# Altium integrated library Texas Instruments Power Management PWM Controller.IntLib: 1227 symbols (part 47 of 49)
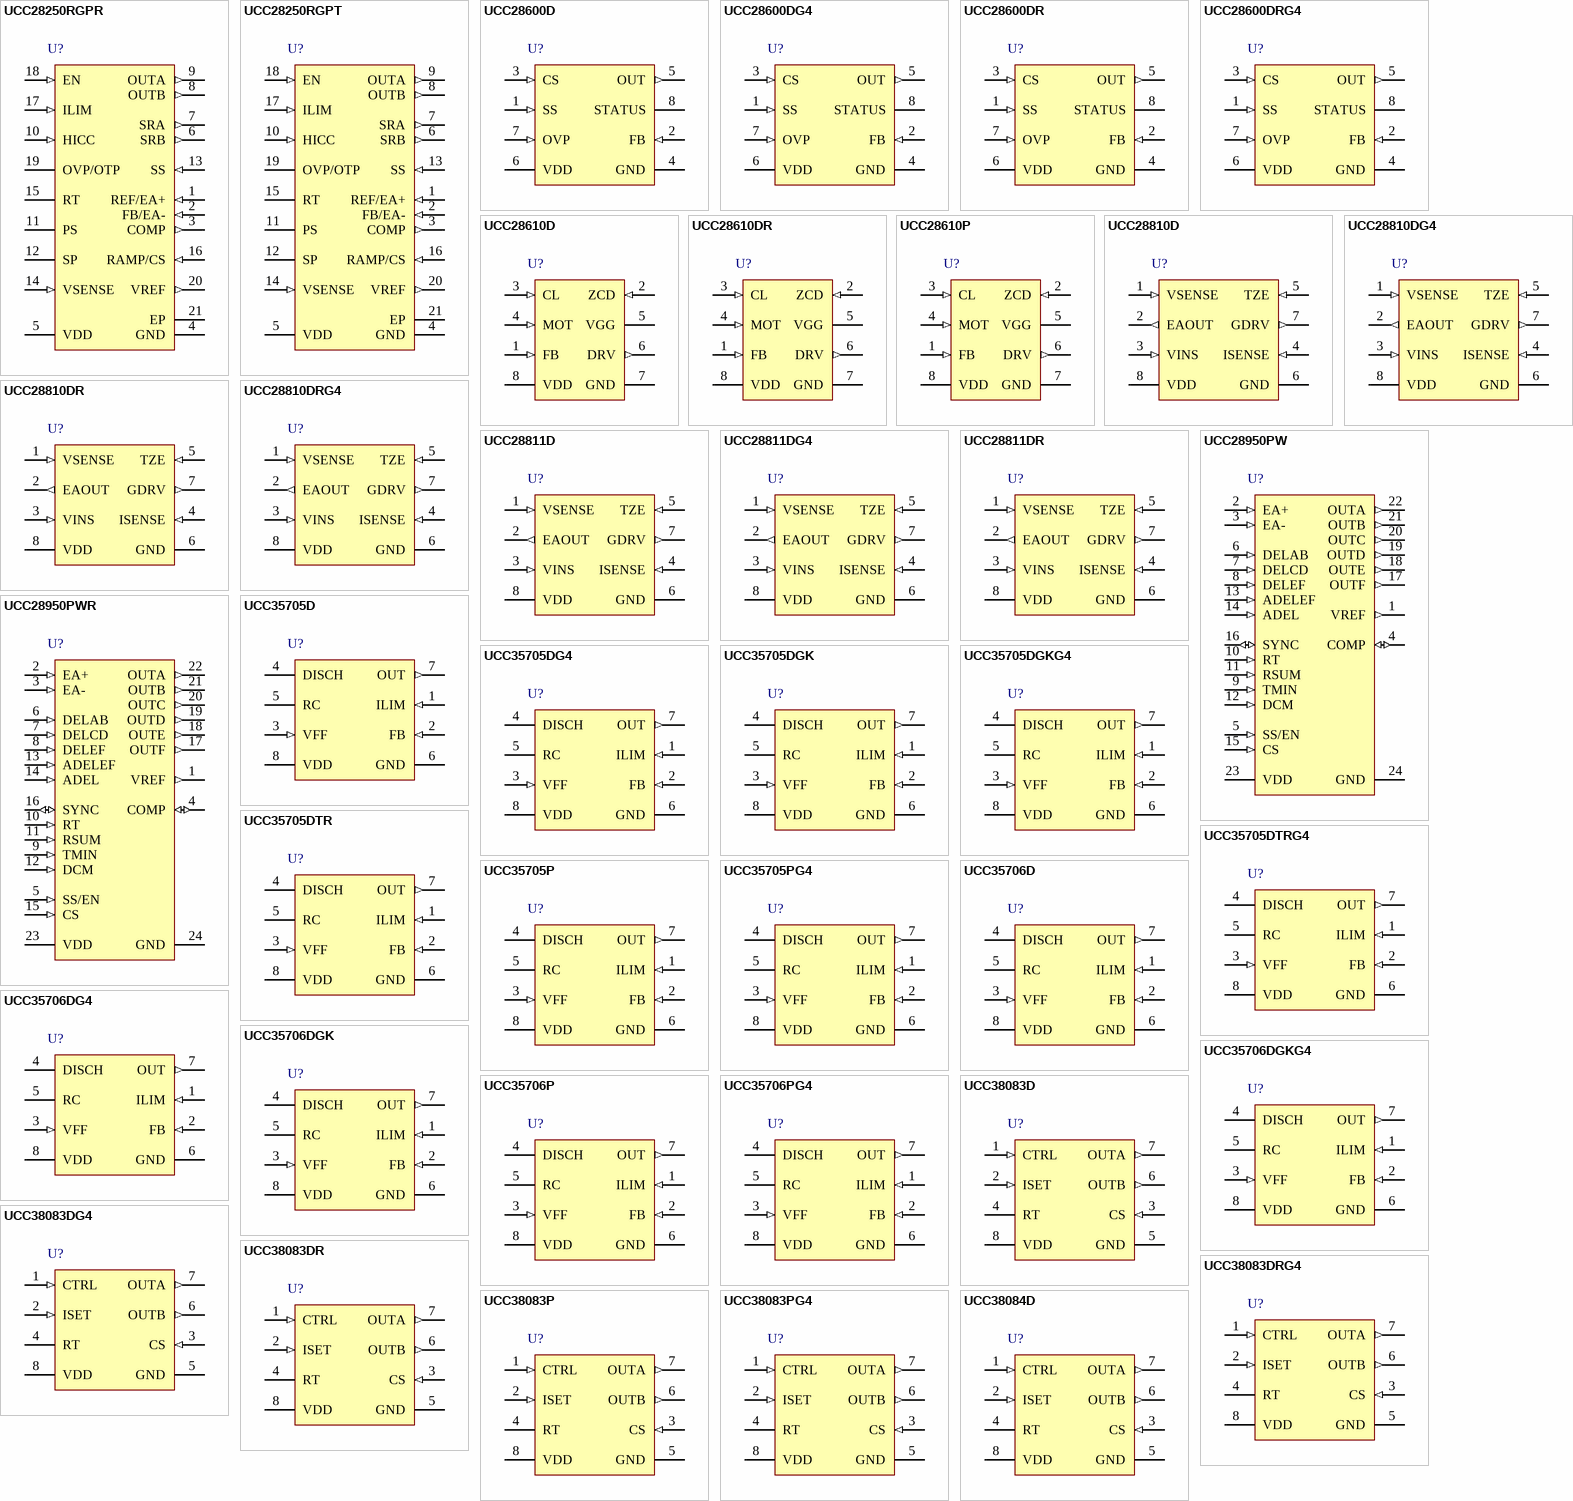
[diagram p89: symbols UCC28250RGPR to UCC38084D]

## UCC35705P
designator U?
High-Speed Pulse Width Modulator with Voltage Control, 93 % Duty Cycle, 0 to +70 degC,8-pin SOIC (P),Green (RoHS & no Sb/Br); PartNumber: UCC35705P; Manufacturer: Texas Instruments; Duty Cycle(Max)(%): 93; Frequency(Max)(kHz): 4000; Rating: Catalog; Regulated Outputs(#): 1; SubFamily: PWM Controller; Topology: Boost, Buck, Flyback, Forward; UVLO Thresholds On/Off(V): 8.8/8.2; DatasheetVersion: SLUS473B; PackageVersion: revE, Apr-2010; PackageReference: P8; PackageDescription: 8-Pin Plastic Dual-In-Line Package, Row Spacing 7.62 mm, Pitch 2.54 mm; Supplier 1: Digi-Key; Supplier Part Number 1: 296-11432-5-ND; Supplier 2: Newark; Supplier Part Number 2: 77C2267; Supplier 3: Mouser; Supplier Part Number 3: 595-UCC35705P; Control Method: Voltage; Eco-Plan: Green (RoHS & no Sb/Br); Mounting Technology: Through Hole; Code_JEDEC: MS-001-BA; ComponentLink1Description: Datasheet; ComponentLink1URL: http://www.ti.com/general/docs/lit/getliterature.tsp?genericPartNumber=UCC35705&fileType=pdf
footprint P8 (DIP, 8-Leads, Row Spacing 7.62mm, Pitch 2.54mm, Body 9.6x6.4mm)
pins: 1 ILIM (in) "Provides a pulse-by-pulse current limit by terminating the PWM pulse when the input is above 200 mV. This provides a high speed (25 ns typical) path to reset the PWM latch, allowing for a pulse-by-pulse current limit.", 2 FB (in) "Input to the PWM comparator. This pin is intended to interface with an optocoupler. Input impedance is 50-kohm typical.", 3 VFF (in) "The feed-forward pin provides the controllerwith a voltage proportional to the power supply input voltage.When the oscillator is providing a duty cycle clamp, a current of 2 x IDISCH is sourced from the VFF pin.", 4 DISCH "A resistor to VIN sets the oscillator discharge current programming amaximum duty cycle. When grounded, an internal comparator switches the oscillator to a quick discharge mode. A small 100-pF capacitor between DISCH and GND (See Datasheet)", 5 RC "The oscillator can be configured to provide a maximum duty cycle clamp. In this mode the on--time is set by RT and CT,while the off-time is set by RDISCH and CT.Since the voltage ramp on CT is proportional to VIN, (See Datasheet)", 6 GND (power) "Ground return pin.", 7 OUT (out) "The output is intended to drive an external FET driver or other high impedance circuits, but is not intended to directly drive a power MOSFET. This improves the controller’s noise immunity. The output resistance of the PWM (See Datasheet)", 8 VDD (power) "Power supply pin. This pin should be bypassed with a 0.1-uF capacitor for proper operation. The undervoltage lockout function of the UCC35705/6 allows for a low current startupmode and ensures that all circuits become active (See Datasheet)"

## UCC35705PG4
designator U?
High-Speed Pulse Width Modulator with Voltage Control, 93 % Duty Cycle, 0 to +70 degC, 8-pin PDIP(P), Green (RoHS & no Sb/Br); PartNumber: UCC35705PG4; Manufacturer: Texas Instruments; Duty Cycle(Max)(%): 93; Frequency(Max)(kHz): 4000; Rating: Catalog; Regulated Outputs(#): 1; SubFamily: PWM Controller; Topology: Boost, Buck, Flyback, Forward; UVLO Thresholds On/Off(V): 8.8/8.2; DatasheetVersion: SLUS473B; PackageVersion: revE, Apr-2010; PackageReference: P8; PackageDescription: 8-Pin Plastic Dual-In-Line Package, Row Spacing 7.62 mm, Pitch 2.54 mm; Supplier 1: Digi-Key; Supplier Part Number 1: UCC35705PG4-ND; Supplier 2: Newark; Supplier Part Number 2: 70K5910; Supplier 3: Mouser; Supplier Part Number 3: 595-UCC35705PG4; Control Method: Voltage; Eco-Plan: Green (RoHS & no Sb/Br); Mounting Technology: Through Hole; Code_JEDEC: MS-001-BA; ComponentLink1Description: Datasheet; ComponentLink1URL: http://www.ti.com/general/docs/lit/getliterature.tsp?genericPartNumber=UCC35705&fileType=pdf
footprint P8 (DIP, 8-Leads, Row Spacing 7.62mm, Pitch 2.54mm, Body 9.6x6.4mm)
pins: 1 ILIM (in) "Provides a pulse-by-pulse current limit by terminating the PWM pulse when the input is above 200 mV. This provides a high speed (25 ns typical) path to reset the PWM latch, allowing for a pulse-by-pulse current limit.", 2 FB (in) "Input to the PWM comparator. This pin is intended to interface with an optocoupler. Input impedance is 50-kohm typical.", 3 VFF (in) "The feed-forward pin provides the controllerwith a voltage proportional to the power supply input voltage.When the oscillator is providing a duty cycle clamp, a current of 2 x IDISCH is sourced from the VFF pin.", 4 DISCH "A resistor to VIN sets the oscillator discharge current programming amaximum duty cycle. When grounded, an internal comparator switches the oscillator to a quick discharge mode. A small 100-pF capacitor between DISCH and GND (See Datasheet)", 5 RC "The oscillator can be configured to provide a maximum duty cycle clamp. In this mode the on--time is set by RT and CT,while the off-time is set by RDISCH and CT.Since the voltage ramp on CT is proportional to VIN, (See Datasheet)", 6 GND (power) "Ground return pin.", 7 OUT (out) "The output is intended to drive an external FET driver or other high impedance circuits, but is not intended to directly drive a power MOSFET. This improves the controller’s noise immunity. The output resistance of the PWM (See Datasheet)", 8 VDD (power) "Power supply pin. This pin should be bypassed with a 0.1-uF capacitor for proper operation. The undervoltage lockout function of the UCC35705/6 allows for a low current startupmode and ensures that all circuits become active (See Datasheet)"

## UCC35706D
designator U?
High-Speed Pulse Width Modulator with Voltage Control, 93 % Duty Cycle, 0 to +70 degC, 8-pin SOIC (D), Green (RoHS & no Sb/Br); PartNumber: UCC35706D; Manufacturer: Texas Instruments; Duty Cycle(Max)(%): 93; Frequency(Max)(kHz): 4000; Rating: Catalog; Regulated Outputs(#): 1; SubFamily: PWM Controller; Topology: Boost, Buck, Flyback, Forward; UVLO Thresholds On/Off(V): 12/8; DatasheetVersion: SLUS473B; PackageVersion: revM, Jun-2011; PackageReference: D8; PackageDescription: 8-Pin Plastic Small Outline Integrated Circuit, 4.9 x 3.9 mm, Pitch 1.27 mm Pitch; Supplier 1: Digi-Key; Supplier Part Number 1: 296-11433-5-ND; Supplier 2: Newark; Supplier Part Number 2: 77C2268; Supplier 3: Mouser; Supplier Part Number 3: 595-UCC35706D; Control Method: Voltage; Eco-Plan: Green (RoHS & no Sb/Br); Mounting Technology: Surface Mount; Code_JEDEC: MS-012AA; ComponentLink1Description: Datasheet; ComponentLink1URL: http://www.ti.com/general/docs/lit/getliterature.tsp?genericPartNumber=UCC35706&fileType=pdf
footprint D8_N (SOIC, 8-Leads, Body 4.9x3.9mm, Pitch 1.27mm, IPC Medium Density)
footprint D8_L (SOIC, 8-Leads, Body 4.9x3.9mm, Pitch 1.27mm, IPC High Density)
footprint D8_M (SOIC, 8-Leads, Body 4.9x3.9mm, Pitch 1.27mm, IPC Low Density)
pins: 1 ILIM (in) "Provides a pulse-by-pulse current limit by terminating the PWM pulse when the input is above 200 mV. This provides a high speed (25 ns typical) path to reset the PWM latch, allowing for a pulse-by-pulse current limit.", 2 FB (in) "Input to the PWM comparator. This pin is intended to interface with an optocoupler. Input impedance is 50-k ohm typical.", 3 VFF (in) "The feed-forward pin provides the controllerwith a voltage proportional to the power supply input voltage.", 4 DISCH "A resistor to VIN sets the oscillator discharge current programming amaximum duty cycle. When grounded, an internal comparator switches the oscillator to a quick discharge mode. A small 100-pF capacitor between DISCH and GND (See Datasheet)", 5 RC "The oscillator can be configured to provide a maximum duty cycle clamp. In this mode the on--time is set by RT and CT,while the off-time is set by RDISCH and CT.Since the voltage ramp on CTis proportional to VIN, (See Datasheet)", 6 GND (power) "Ground return pin.", 7 OUT (out) "The output is intended to drive an external FET driver or other high impedance circuits, but is not intended to directly drive a power MOSFET. This improves the controller’s noise immunity. The output resistance of the PWM (See Datasheet)", 8 VDD (power) "Power supply pin. This pin should be bypassed with a 0.1-uF capacitor for proper operation. The undervoltage lockout function of the UCC35705/6 allows for a low current startupmode and ensures that all circuits become active (See Datasheet)"

## UCC35706DG4
designator U?
High-Speed Pulse Width Modulator with Voltage Control, 93 % Duty Cycle, 0 to +70 degC, 8-pin SOIC (D), Green (RoHS & no Sb/Br); PartNumber: UCC35706DG4; Manufacturer: Texas Instruments; Duty Cycle(Max)(%): 93; Frequency(Max)(kHz): 4000; Rating: Catalog; Regulated Outputs(#): 1; SubFamily: PWM Controller; Topology: Boost, Buck, Flyback, Forward; UVLO Thresholds On/Off(V): 12/8; DatasheetVersion: SLUS473B; PackageVersion: revM, Jun-2011; PackageReference: D8; PackageDescription: 8-Pin Plastic Small Outline Integrated Circuit, 4.9 x 3.9 mm, Pitch 1.27 mm Pitch; Supplier 1: Digi-Key; Supplier Part Number 1: UCC35706DG4-ND; Supplier 2: Newark; Supplier Part Number 2: 54K2091; Supplier 3: Mouser; Supplier Part Number 3: 595-UCC35706DG4; Control Method: Voltage; Eco-Plan: Green (RoHS & no Sb/Br); Mounting Technology: Surface Mount; Code_JEDEC: MS-012AA; ComponentLink1Description: Datasheet; ComponentLink1URL: http://www.ti.com/general/docs/lit/getliterature.tsp?genericPartNumber=UCC35706&fileType=pdf
footprint D8_N (SOIC, 8-Leads, Body 4.9x3.9mm, Pitch 1.27mm, IPC Medium Density)
footprint D8_L (SOIC, 8-Leads, Body 4.9x3.9mm, Pitch 1.27mm, IPC High Density)
footprint D8_M (SOIC, 8-Leads, Body 4.9x3.9mm, Pitch 1.27mm, IPC Low Density)
pins: 1 ILIM (in) "Provides a pulse-by-pulse current limit by terminating the PWM pulse when the input is above 200 mV. This provides a high speed (25 ns typical) path to reset the PWM latch, allowing for a pulse-by-pulse current limit.", 2 FB (in) "Input to the PWM comparator. This pin is intended to interface with an optocoupler. Input impedance is 50-k ohm typical.", 3 VFF (in) "The feed-forward pin provides the controllerwith a voltage proportional to the power supply input voltage.", 4 DISCH "A resistor to VIN sets the oscillator discharge current programming amaximum duty cycle. When grounded, an internal comparator switches the oscillator to a quick discharge mode. A small 100-pF capacitor between DISCH and GND (See Datasheet)", 5 RC "The oscillator can be configured to provide a maximum duty cycle clamp. In this mode the on--time is set by RT and CT,while the off-time is set by RDISCH and CT.Since the voltage ramp on CTis proportional to VIN, (See Datasheet)", 6 GND (power) "Ground return pin.", 7 OUT (out) "The output is intended to drive an external FET driver or other high impedance circuits, but is not intended to directly drive a power MOSFET. This improves the controller’s noise immunity. The output resistance of the PWM (See Datasheet)", 8 VDD (power) "Power supply pin. This pin should be bypassed with a 0.1-uF capacitor for proper operation. The undervoltage lockout function of the UCC35705/6 allows for a low current startupmode and ensures that all circuits become active (See Datasheet)"

## UCC35706DGK
designator U?
High-Speed Pulse Width Modulator with Voltage Control, 93 % Duty Cycle, 0 to +70 degC, 8-pin MSOP (DGK), Green (RoHS & no Sb/Br); PartNumber: UCC35706DGK; Manufacturer: Texas Instruments; Duty Cycle(Max)(%): 93; Frequency(Max)(kHz): 4000; Rating: Catalog; Regulated Outputs(#): 1; SubFamily: PWM Controller; Topology: Boost, Buck, Flyback, Forward; UVLO Thresholds On/Off(V): 12/8; DatasheetVersion: SLUS473B; PackageVersion: revE, May-2006; PackageReference: DGK8; PackageDescription: 8-Pin Thin Small Outline Package 3 x 3 mm Body ,0.65 mm Pitch; Supplier 1: Digi-Key; Supplier Part Number 1: 296-11434-5-ND; Supplier 2: Newark; Supplier Part Number 2: 77C2269; Supplier 3: Mouser; Supplier Part Number 3: 595-UCC35706DGK; Control Method: Voltage; Eco-Plan: Green (RoHS & no Sb/Br); Mounting Technology: Surface Mount; Code_JEDEC: MO-187-AA; ComponentLink1Description: Datasheet; ComponentLink1URL: http://www.ti.com/general/docs/lit/getliterature.tsp?genericPartNumber=UCC35706&fileType=pdf
footprint DGK8_N (TSOP, 8-Leads, Body 3x3mm, Pitch 0.65mm, IPC Medium Density)
footprint DGK8_L (TSOP, 8-Leads, Body 3x3mm, Pitch 0.65mm, IPC High Density)
footprint DGK8_M (TSOP, 8-Leads, Body 3x3mm, Pitch 0.65mm, IPC Low Density)
pins: 1 ILIM (in) "Provides a pulse-by-pulse current limit by terminating the PWM pulse when the input is above 200 mV. This provides a high speed (25 ns typical) path to reset the PWM latch, allowing for a pulse-by-pulse current limit.", 2 FB (in) "Input to the PWM comparator. This pin is intended to interface with an optocoupler. Input impedance is 50-kohm typical.", 3 VFF (in) "The feed-forward pin provides the controller with a voltage proportional to the power supply input voltage. When the oscillator is providing a duty cycle clamp, a current of 2 x IDISCH is sourced from the VFF pin.When the (See Datasheet)", 4 DISCH "A resistor to VIN sets the oscillator discharge current programming a maximum duty cycle. When grounded, an internal comparator switches the oscillator to a quick discharge mode. A small 100-pF capacitor between DISCH and (See Datasheet)", 5 RC "The oscillator can be configured to provide a maximum duty cycle clamp. In this mode the on--time is set by RT and CT, while the off-time is set by RDISCH and CT. Since the voltage ramp on CT is proportional to VIN, (See Datasheet)", 6 GND (power) "Ground return pin.", 7 OUT (out) "The output is intended to drive an external FET driver or other high impedance circuits, but is not intended to directly drive a power MOSFET. This improves the controller’s noise immunity. The output resistance of the PWM (See Datasheet)", 8 VDD (power) "Power supply pin. This pin should be bypassed with a 0.1-uF capacitor for proper operation. The undervoltage lockout function of the UCC35705/6 allows for a low current startup mode and ensures that all circuits become (See Datasheet)"

## UCC35706DGKG4
designator U?
High-Speed Pulse Width Modulator with Voltage Control, 93 % Duty Cycle, 0 to +70 degC, 8-pin MSOP (DGK), Green (RoHS & no Sb/Br); PartNumber: UCC35706DGKG4; Manufacturer: Texas Instruments; Duty Cycle(Max)(%): 93; Frequency(Max)(kHz): 4000; Rating: Catalog; Regulated Outputs(#): 1; SubFamily: PWM Controller; Topology: Boost, Buck, Flyback, Forward; UVLO Thresholds On/Off(V): 12/8; DatasheetVersion: SLUS473B; PackageVersion: revE, May-2006; PackageReference: DGK8; PackageDescription: 8-Pin Thin Small Outline Package 3 x 3 mm Body ,0.65 mm Pitch; Supplier 1: Digi-Key; Supplier Part Number 1: UCC35706DGKG4-ND; Supplier 2: Mouser; Supplier Part Number 2: 595-UCC35706DGKG4; Control Method: Voltage; Eco-Plan: Green (RoHS & no Sb/Br); Mounting Technology: Surface Mount; Code_JEDEC: MO-187-AA; ComponentLink1Description: Datasheet; ComponentLink1URL: http://www.ti.com/general/docs/lit/getliterature.tsp?genericPartNumber=UCC35706&fileType=pdf
footprint DGK8_N (TSOP, 8-Leads, Body 3x3mm, Pitch 0.65mm, IPC Medium Density)
footprint DGK8_L (TSOP, 8-Leads, Body 3x3mm, Pitch 0.65mm, IPC High Density)
footprint DGK8_M (TSOP, 8-Leads, Body 3x3mm, Pitch 0.65mm, IPC Low Density)
pins: 1 ILIM (in) "Provides a pulse-by-pulse current limit by terminating the PWM pulse when the input is above 200 mV. This provides a high speed (25 ns typical) path to reset the PWM latch, allowing for a pulse-by-pulse current limit.", 2 FB (in) "Input to the PWM comparator. This pin is intended to interface with an optocoupler. Input impedance is 50-kohm typical.", 3 VFF (in) "The feed-forward pin provides the controller with a voltage proportional to the power supply input voltage. When the oscillator is providing a duty cycle clamp, a current of 2 x IDISCH is sourced from the VFF pin.When the (See Datasheet)", 4 DISCH "A resistor to VIN sets the oscillator discharge current programming a maximum duty cycle. When grounded, an internal comparator switches the oscillator to a quick discharge mode. A small 100-pF capacitor between DISCH and (See Datasheet)", 5 RC "The oscillator can be configured to provide a maximum duty cycle clamp. In this mode the on--time is set by RT and CT, while the off-time is set by RDISCH and CT. Since the voltage ramp on CT is proportional to VIN, (See Datasheet)", 6 GND (power) "Ground return pin.", 7 OUT (out) "The output is intended to drive an external FET driver or other high impedance circuits, but is not intended to directly drive a power MOSFET. This improves the controller’s noise immunity. The output resistance of the PWM (See Datasheet)", 8 VDD (power) "Power supply pin. This pin should be bypassed with a 0.1-uF capacitor for proper operation. The undervoltage lockout function of the UCC35705/6 allows for a low current startup mode and ensures that all circuits become (See Datasheet)"

## UCC35706P
designator U?
High-Speed Pulse Width Modulator with Voltage Control, 93 % Duty Cycle, 0 to +70 degC, 8-pin PDIP (P), Green (RoHS & no Sb/Br); PartNumber: UCC35706P; Manufacturer: Texas Instruments; Duty Cycle(Max)(%): 93; Frequency(Max)(kHz): 4000; Rating: Catalog; Regulated Outputs(#): 1; SubFamily: PWM Controller; Topology: Boost, Buck, Flyback, Forward; UVLO Thresholds On/Off(V): 12/8; DatasheetVersion: SLUS473B; PackageVersion: revE, Apr-2010; PackageReference: P8; PackageDescription: 8-Pin Plastic Dual-In-Line Package, Row Spacing 7.62 mm, Pitch 2.54 mm; Supplier 1: Digi-Key; Supplier Part Number 1: 296-15320-5-ND; Supplier 2: Newark; Supplier Part Number 2: 77C2272; Supplier 3: Mouser; Supplier Part Number 3: 595-UCC35706P; Control Method: Voltage; Eco-Plan: Green (RoHS & no Sb/Br); Mounting Technology: Through Hole; Code_JEDEC: MS-001-BA; ComponentLink1Description: Datasheet; ComponentLink1URL: http://www.ti.com/general/docs/lit/getliterature.tsp?genericPartNumber=UCC35706&fileType=pdf
footprint P8 (DIP, 8-Leads, Row Spacing 7.62mm, Pitch 2.54mm, Body 9.6x6.4mm)
pins: 1 ILIM (in) "Provides a pulse-by-pulse current limit by terminating the PWM pulse when the input is above 200 mV. This provides a high speed (25 ns typical) path to reset the PWM latch, allowing for a pulse-by-pulse current limit.", 2 FB (in) "Input to the PWM comparator. This pin is intended to interface with an optocoupler. Input impedance is 50-kohm typical.", 3 VFF (in) "The feed-forward pin provides the controllerwith a voltage proportional to the power supply input voltage.", 4 DISCH "A resistor to VIN sets the oscillator discharge current programming amaximum duty cycle. When grounded, an internal comparator switches the oscillator to a quick discharge mode. A small 100-pF capacitor between DISCH and GND (See Datasheet)", 5 RC "The oscillator can be configured to provide a maximum duty cycle clamp. In this mode the on--time is set by RT and CT,while the off-time is set by RDISCH and CT.Since the voltage ramp on CTis proportional to VIN, (See Datasheet)", 6 GND (power) "Ground return pin.", 7 OUT (out) "The output is intended to drive an external FET driver or other high impedance circuits, but is not intended to directly drive a power MOSFET. This improves the controller’s noise immunity. The output resistance of the PWM (See Datasheet)", 8 VDD (power) "Power supply pin. This pin should be bypassed with a 0.1-uF capacitor for proper operation. The undervoltage lockout function of the UCC35705/6 allows for a low current startupmode and ensures that all circuits become active (See Datasheet)"

## UCC35706PG4
designator U?
High-Speed Voltage Mode Polse Width Modulator with Voltage Control, 93 % Duty Cycle, 0 to +70 degC, 8-pin PDIP (P), Green (RoHS & no Sb/Br); PartNumber: UCC35706PG4; Manufacturer: Texas Instruments; Duty Cycle(Max)(%): 93; Frequency(Max)(kHz): 4000; Rating: Catalog; Regulated Outputs(#): 1; SubFamily: PWM Controller; Topology: Boost, Buck, Flyback, Forward; UVLO Thresholds On/Off(V): 12/8; DatasheetVersion: SLUS473B; PackageVersion: revE, Apr-2010; PackageReference: P8; PackageDescription: 8-Pin Plastic Dual-In-Line Package, Row Spacing 7.62 mm, Pitch 2.54 mm; Supplier 1: Digi-Key; Supplier Part Number 1: UCC35706PG4-ND; Supplier 2: Newark; Supplier Part Number 2: 54K2093; Supplier 3: Mouser; Supplier Part Number 3: 595-UCC35706PG4; Control Method: Voltage; Eco-Plan: Green (RoHS & no Sb/Br); Mounting Technology: Through Hole; Code_JEDEC: MS-001-BA; ComponentLink1Description: Datasheet; ComponentLink1URL: http://www.ti.com/general/docs/lit/getliterature.tsp?genericPartNumber=UCC35706&fileType=pdf
footprint P8 (DIP, 8-Leads, Row Spacing 7.62mm, Pitch 2.54mm, Body 9.6x6.4mm)
pins: 1 ILIM (in) "Provides a pulse-by-pulse current limit by terminating the PWM pulse when the input is above 200 mV. This provides a high speed (25 ns typical) path to reset the PWM latch, allowing for a pulse-by-pulse current limit.", 2 FB (in) "Input to the PWM comparator. This pin is intended to interface with an optocoupler. Input impedance is 50-kohm typical.", 3 VFF (in) "The feed-forward pin provides the controllerwith a voltage proportional to the power supply input voltage.", 4 DISCH "A resistor to VIN sets the oscillator discharge current programming amaximum duty cycle. When grounded, an internal comparator switches the oscillator to a quick discharge mode. A small 100-pF capacitor between DISCH and GND (See Datasheet)", 5 RC "The oscillator can be configured to provide a maximum duty cycle clamp. In this mode the on--time is set by RT and CT,while the off-time is set by RDISCH and CT.Since the voltage ramp on CTis proportional to VIN, (See Datasheet)", 6 GND (power) "Ground return pin.", 7 OUT (out) "The output is intended to drive an external FET driver or other high impedance circuits, but is not intended to directly drive a power MOSFET. This improves the controller’s noise immunity. The output resistance of the PWM (See Datasheet)", 8 VDD (power) "Power supply pin. This pin should be bypassed with a 0.1-uF capacitor for proper operation. The undervoltage lockout function of the UCC35705/6 allows for a low current startupmode and ensures that all circuits become active (See Datasheet)"

## UCC38083D
designator U?
Push-Pull PWM Controller with Programmable Slope Compensation with Current Control, 50 % Duty Cycle, 0 to +70 degC, 8-pin SOIC (D), Green (RoHS & no Sb/Br); PartNumber: UCC38083D; Manufacturer: Texas Instruments; Duty Cycle(Max)(%): 50; Frequency(Max)(kHz): 1000; Rating: Catalog; Regulated Outputs(#): 2; Topology: Boost, Buck, Half-Bridge, Push-Pull; UVLO Thresholds On/Off(V): 12.5/8.3; DatasheetVersion: SLUS488E; PackageVersion: revM, Jun-2011; PackageReference: D8; PackageDescription: 8-Pin Plastic Small Outline Integrated Circuit, 4.9 x 3.9 mm, Pitch 1.27 mm Pitch; Supplier 1: Digi-Key; Supplier Part Number 1: 296-13690-5-ND; Supplier 2: Newark; Supplier Part Number 2: 02E7337; Supplier 3: Mouser; Supplier Part Number 3: 595-UCC38083D; Control Method: Current; Eco-Plan: Green (RoHS & no Sb/Br); SubFamily: PWM Controller; Mounting Technology: Surface Mount; Code_JEDEC: MS-012AA; ComponentLink1Description: Datasheet; ComponentLink1URL: http://www.ti.com/general/docs/lit/getliterature.tsp?genericPartNumber=UCC38083&fileType=pdf
footprint D8_N (SOIC, 8-Leads, Body 4.9x3.9mm, Pitch 1.27mm, IPC Medium Density)
footprint D8_L (SOIC, 8-Leads, Body 4.9x3.9mm, Pitch 1.27mm, IPC High Density)
footprint D8_M (SOIC, 8-Leads, Body 4.9x3.9mm, Pitch 1.27mm, IPC Low Density)
pins: 1 CTRL (in) "Error voltage input to PWM comparator.", 2 ISET (in) "Current selection for slope compensation.", 3 CS (in) "The current-sense input to the PWM comparator, the cycle-by-cycle peak current comparator, and the overcurrent comparator. The overcurrent comparator is only intended for fault sensing. Exceeding the overcurrent threshold (See Datasheet)", 4 RT "Programs the oscillator.", 5 GND (power) "Reference ground and power ground for all functions. Due to high currents, and high-frequency operation of the IC, a low-impedance circuit board ground plane is highly recommended.", 6 OUTB (out) "Alternating high-current output stages.", 7 OUTA (out) "Alternating high-current output stages.", 8 VDD (power) "Power input connection."

## UCC38083DG4
designator U?
Push-Pull PWM Controller with Programmable Slope Compensation with Current Control, 50 % Duty Cycle, 0 to +70 degC, 8-pin SOIC (D), Green (RoHS & no Sb/Br); PartNumber: UCC38083DG4; Manufacturer: Texas Instruments; Duty Cycle(Max)(%): 50; Frequency(Max)(kHz): 1000; Rating: Catalog; Regulated Outputs(#): 2; Topology: Boost, Buck, Half-Bridge, Push-Pull; UVLO Thresholds On/Off(V): 12.5/8.3; DatasheetVersion: SLUS488E; PackageVersion: revM, Jun-2011; PackageReference: D8; PackageDescription: 8-Pin Plastic Small Outline Integrated Circuit, 4.9 x 3.9 mm, Pitch 1.27 mm Pitch; Supplier 1: Digi-Key; Supplier Part Number 1: UCC38083DG4-ND; Supplier 2: Newark; Supplier Part Number 2: 60M2694; Supplier 3: Mouser; Supplier Part Number 3: 595-UCC38083DG4; Control Method: Current; Eco-Plan: Green (RoHS & no Sb/Br); SubFamily: PWM Controller; Mounting Technology: Surface Mount; Code_JEDEC: MS-012AA; ComponentLink1Description: Datasheet; ComponentLink1URL: http://www.ti.com/general/docs/lit/getliterature.tsp?genericPartNumber=UCC38083&fileType=pdf
footprint D8_N (SOIC, 8-Leads, Body 4.9x3.9mm, Pitch 1.27mm, IPC Medium Density)
footprint D8_L (SOIC, 8-Leads, Body 4.9x3.9mm, Pitch 1.27mm, IPC High Density)
footprint D8_M (SOIC, 8-Leads, Body 4.9x3.9mm, Pitch 1.27mm, IPC Low Density)
pins: 1 CTRL (in) "Error voltage input to PWM comparator.", 2 ISET (in) "Current selection for slope compensation.", 3 CS (in) "The current-sense input to the PWM comparator, the cycle-by-cycle peak current comparator, and the overcurrent comparator. The overcurrent comparator is only intended for fault sensing. Exceeding the overcurrent threshold (See Datasheet)", 4 RT "Programs the oscillator.", 5 GND (power) "Reference ground and power ground for all functions. Due to high currents, and high-frequency operation of the IC, a low-impedance circuit board ground plane is highly recommended.", 6 OUTB (out) "Alternating high-current output stages.", 7 OUTA (out) "Alternating high-current output stages.", 8 VDD (power) "Power input connection."

## UCC38083DR
designator U?
Push-Pull PWM Controller with Programmable Slope Compensation with Current Control, 50 % Duty Cycle, 0 to +70 degC, 8-pin SOIC (D), Green (RoHS & no Sb/Br); PartNumber: UCC38083DR; Manufacturer: Texas Instruments; Duty Cycle(Max)(%): 50; Frequency(Max)(kHz): 1000; Rating: Catalog; Regulated Outputs(#): 2; Topology: Boost, Buck, Half-Bridge, Push-Pull; UVLO Thresholds On/Off(V): 12.5/8.3; DatasheetVersion: SLUS488E; PackageVersion: revM, Jun-2011; PackageReference: D8; PackageDescription: 8-Pin Plastic Small Outline Integrated Circuit, 4.9 x 3.9 mm, Pitch 1.27 mm Pitch; Supplier 1: Digi-Key; Supplier Part Number 1: UCC38083DR-ND; Supplier 2: Newark; Supplier Part Number 2: 02E7338; Supplier 3: Mouser; Supplier Part Number 3: 595-UCC38083DR; Control Method: Current; Eco-Plan: Green (RoHS & no Sb/Br); SubFamily: PWM Controller; Mounting Technology: Surface Mount; Code_JEDEC: MS-012AA; ComponentLink1Description: Datasheet; ComponentLink1URL: http://www.ti.com/general/docs/lit/getliterature.tsp?genericPartNumber=UCC38083&fileType=pdf
footprint D8_N (SOIC, 8-Leads, Body 4.9x3.9mm, Pitch 1.27mm, IPC Medium Density)
footprint D8_L (SOIC, 8-Leads, Body 4.9x3.9mm, Pitch 1.27mm, IPC High Density)
footprint D8_M (SOIC, 8-Leads, Body 4.9x3.9mm, Pitch 1.27mm, IPC Low Density)
pins: 1 CTRL (in) "Error voltage input to PWM comparator.", 2 ISET (in) "Current selection for slope compensation.", 3 CS (in) "The current-sense input to the PWM comparator, the cycle-by-cycle peak current comparator, and the overcurrent comparator. The overcurrent comparator is only intended for fault sensing. Exceeding the overcurrent threshold (See Datasheet)", 4 RT "Programs the oscillator.", 5 GND (power) "Reference ground and power ground for all functions. Due to high currents, and high-frequency operation of the IC, a low-impedance circuit board ground plane is highly recommended.", 6 OUTB (out) "Alternating high-current output stages.", 7 OUTA (out) "Alternating high-current output stages.", 8 VDD (power) "Power input connection."

## UCC38083DRG4
designator U?
Push-Pull PWM Controller with Programmable Slope Compensation with Current Control, 50 % Duty Cycle, 0 to +70 degC, 8-pin SOIC (D), Green (RoHS & no Sb/Br); PartNumber: UCC38083DRG4; Manufacturer: Texas Instruments; Duty Cycle(Max)(%): 50; Frequency(Max)(kHz): 1000; Rating: Catalog; Regulated Outputs(#): 2; Topology: Boost, Buck, Half-Bridge, Push-Pull; UVLO Thresholds On/Off(V): 12.5/8.3; DatasheetVersion: SLUS488E; PackageVersion: revM, Jun-2011; PackageReference: D8; PackageDescription: 8-Pin Plastic Small Outline Integrated Circuit, 4.9 x 3.9 mm, Pitch 1.27 mm Pitch; Supplier 1: Digi-Key; Supplier Part Number 1: UCC38083DRG4-ND; Supplier 2: Newark; Supplier Part Number 2: 54K2129; Supplier 3: Mouser; Supplier Part Number 3: 595-UCC38083DRG4; Control Method: Current; Eco-Plan: Green (RoHS & no Sb/Br); SubFamily: PWM Controller; Mounting Technology: Surface Mount; Code_JEDEC: MS-012AA; ComponentLink1Description: Datasheet; ComponentLink1URL: http://www.ti.com/general/docs/lit/getliterature.tsp?genericPartNumber=UCC38083&fileType=pdf
footprint D8_N (SOIC, 8-Leads, Body 4.9x3.9mm, Pitch 1.27mm, IPC Medium Density)
footprint D8_L (SOIC, 8-Leads, Body 4.9x3.9mm, Pitch 1.27mm, IPC High Density)
footprint D8_M (SOIC, 8-Leads, Body 4.9x3.9mm, Pitch 1.27mm, IPC Low Density)
pins: 1 CTRL (in) "Error voltage input to PWM comparator.", 2 ISET (in) "Current selection for slope compensation.", 3 CS (in) "The current-sense input to the PWM comparator, the cycle-by-cycle peak current comparator, and the overcurrent comparator. The overcurrent comparator is only intended for fault sensing. Exceeding the overcurrent threshold (See Datasheet)", 4 RT "Programs the oscillator.", 5 GND (power) "Reference ground and power ground for all functions. Due to high currents, and high-frequency operation of the IC, a low-impedance circuit board ground plane is highly recommended.", 6 OUTB (out) "Alternating high-current output stages.", 7 OUTA (out) "Alternating high-current output stages.", 8 VDD (power) "Power input connection."

## UCC38083P
designator U?
Push-Pull PWM Controller with Programmable Slope Compensation with Current Control, 50 % Duty Cycle, 0 to +70 degC, 8-pin PDIP (P), Green (RoHS & no Sb/Br); PartNumber: UCC38083P; Manufacturer: Texas Instruments; Duty Cycle(Max)(%): 50; Frequency(Max)(kHz): 1000; Rating: Catalog; Regulated Outputs(#): 2; Topology: Boost, Buck, Half-Bridge, Push-Pull; UVLO Thresholds On/Off(V): 12.5/8.3; DatasheetVersion: SLUS488E; PackageVersion: revE, Apr-2010; PackageReference: P8; PackageDescription: 8-Pin Plastic Dual-In-Line Package, Row Spacing 7.62 mm, Pitch 2.54 mm; Supplier 1: Digi-Key; Supplier Part Number 1: 296-13691-5-ND; Supplier 2: Newark; Supplier Part Number 2: 02E7339; Supplier 3: Mouser; Supplier Part Number 3: 595-UCC38083P; Control Method: Current; Eco-Plan: Green (RoHS & no Sb/Br); SubFamily: PWM Controller; Mounting Technology: Through Hole; Code_JEDEC: MS-001-BA; ComponentLink1Description: Datasheet; ComponentLink1URL: http://www.ti.com/general/docs/lit/getliterature.tsp?genericPartNumber=UCC38083&fileType=pdf
footprint P8 (DIP, 8-Leads, Row Spacing 7.62mm, Pitch 2.54mm, Body 9.6x6.4mm)
pins: 1 CTRL (in) "Error voltage input to PWM comparator.", 2 ISET (in) "Current selection for slope compensation.", 3 CS (in) "The current-sense input to the PWM comparator, the cycle-by-cycle peak current comparator, and the overcurrent comparator. The overcurrent comparator is only intended for fault sensing. Exceeding the overcurrent threshold (See Datasheet)", 4 RT "Programs the oscillator.", 5 GND (power) "Reference ground and power ground for all functions. Due to high currents, and high-frequency operation of the IC, a low-impedance circuit board ground plane is highly recommended.", 6 OUTB (out) "Alternating high-current output stages", 7 OUTA (out) "Alternating high-current output stages", 8 VDD (power) "Power input connection."

## UCC38083PG4
designator U?
Push-Pull PWM Controller with Programmable Slope Compensation with Current Control, 50 % Duty Cycle, 0 to +70 degC, 8-pin PDIP (P), Green (RoHS & no Sb/Br); PartNumber: UCC38083PG4; Manufacturer: Texas Instruments; Duty Cycle(Max)(%): 50; Frequency(Max)(kHz): 1000; Rating: Catalog; Regulated Outputs(#): 2; Topology: Boost, Buck, Half-Bridge, Push-Pull; UVLO Thresholds On/Off(V): 12.5/8.3; DatasheetVersion: SLUS488E; PackageVersion: revE, Apr-2010; PackageReference: P8; PackageDescription: 8-Pin Plastic Dual-In-Line Package, Row Spacing 7.62 mm, Pitch 2.54 mm; Supplier 1: Digi-Key; Supplier Part Number 1: UCC38083PG4-ND; Supplier 2: Newark; Supplier Part Number 2: 54K2130; Supplier 3: Mouser; Supplier Part Number 3: 595-UCC38083PG4; Control Method: Current; Eco-Plan: Green (RoHS & no Sb/Br); SubFamily: PWM Controller; Mounting Technology: Through Hole; Code_JEDEC: MS-001-BA; ComponentLink1Description: Datasheet; ComponentLink1URL: http://www.ti.com/general/docs/lit/getliterature.tsp?genericPartNumber=UCC38083&fileType=pdf
footprint P8 (DIP, 8-Leads, Row Spacing 7.62mm, Pitch 2.54mm, Body 9.6x6.4mm)
pins: 1 CTRL (in) "Error voltage input to PWM comparator.", 2 ISET (in) "Current selection for slope compensation.", 3 CS (in) "The current-sense input to the PWM comparator, the cycle-by-cycle peak current comparator, and the overcurrent comparator. The overcurrent comparator is only intended for fault sensing. Exceeding the overcurrent threshold (See Datasheet)", 4 RT "Programs the oscillator.", 5 GND (power) "Reference ground and power ground for all functions. Due to high currents, and high-frequency operation of the IC, a low-impedance circuit board ground plane is highly recommended.", 6 OUTB (out) "Alternating high-current output stages", 7 OUTA (out) "Alternating high-current output stages", 8 VDD (power) "Power input connection."

## UCC38084D
designator U?
8-Pin Current Mode Push-Pull PWM Controllers with Programmable Slope Compensation with Current control, 50% Duty Cycle, 0 to +70 degC, 8-pin SOIC (D), Green (RoHS & no Sb/Br); PartNumber: UCC38084D; Manufacturer: Texas Instruments; Duty Cycle(Max)(%): 50; Frequency(Max)(kHz): 1000; Rating: Catalog; Regulated Outputs(#): 2; Topology: Boost, Buck, Half-Bridge, Push-Pull; UVLO Thresholds On/Off(V): 4.3/4.1; DatasheetVersion: SLUS488E; PackageVersion: revM, Jun-2011; PackageReference: D8; PackageDescription: 8-Pin Plastic Small Outline Integrated Circuit, 4.9 x 3.9 mm, Pitch 1.27 mm Pitch; Supplier 1: Digi-Key; Supplier Part Number 1: 296-13692-5-ND; Supplier 2: Newark; Supplier Part Number 2: 02E7340; Supplier 3: Mouser; Supplier Part Number 3: 595-UCC38084D; Control Method: Current; Eco-Plan: Green (RoHS & no Sb/Br); SubFamily: PWM Controller; Mounting Technology: Surface Mount; Code_JEDEC: MS-012AA; ComponentLink1Description: Datasheet; ComponentLink1URL: http://www.ti.com/general/docs/lit/getliterature.tsp?genericPartNumber=UCC38084&fileType=pdf
footprint D8_N (SOIC, 8-Leads, Body 4.9x3.9mm, Pitch 1.27mm, IPC Medium Density)
footprint D8_L (SOIC, 8-Leads, Body 4.9x3.9mm, Pitch 1.27mm, IPC High Density)
footprint D8_M (SOIC, 8-Leads, Body 4.9x3.9mm, Pitch 1.27mm, IPC Low Density)
pins: 1 CTRL (in) "Error voltage input to PWM comparator.", 2 ISET (in) "Current selection for slope compensation.", 3 CS (in) "The current-sense input to the PWM comparator, the cycle-by-cycle peak current comparator, and the overcurrent comparator. The overcurrent comparator is only intended for fault sensing. Exceeding the overcurrent threshold (See Datasheet)", 4 RT "Programs the oscillator.", 5 GND (power) "Reference ground and power ground for all functions. Due to high currents, and high-frequency operation of the IC, a low-impedance circuit board ground plane is highly recommended.", 6 OUTB (out) "Alternating high-current output stages.", 7 OUTA (out) "Alternating high-current output stages.", 8 VDD (power) "Power input connection."

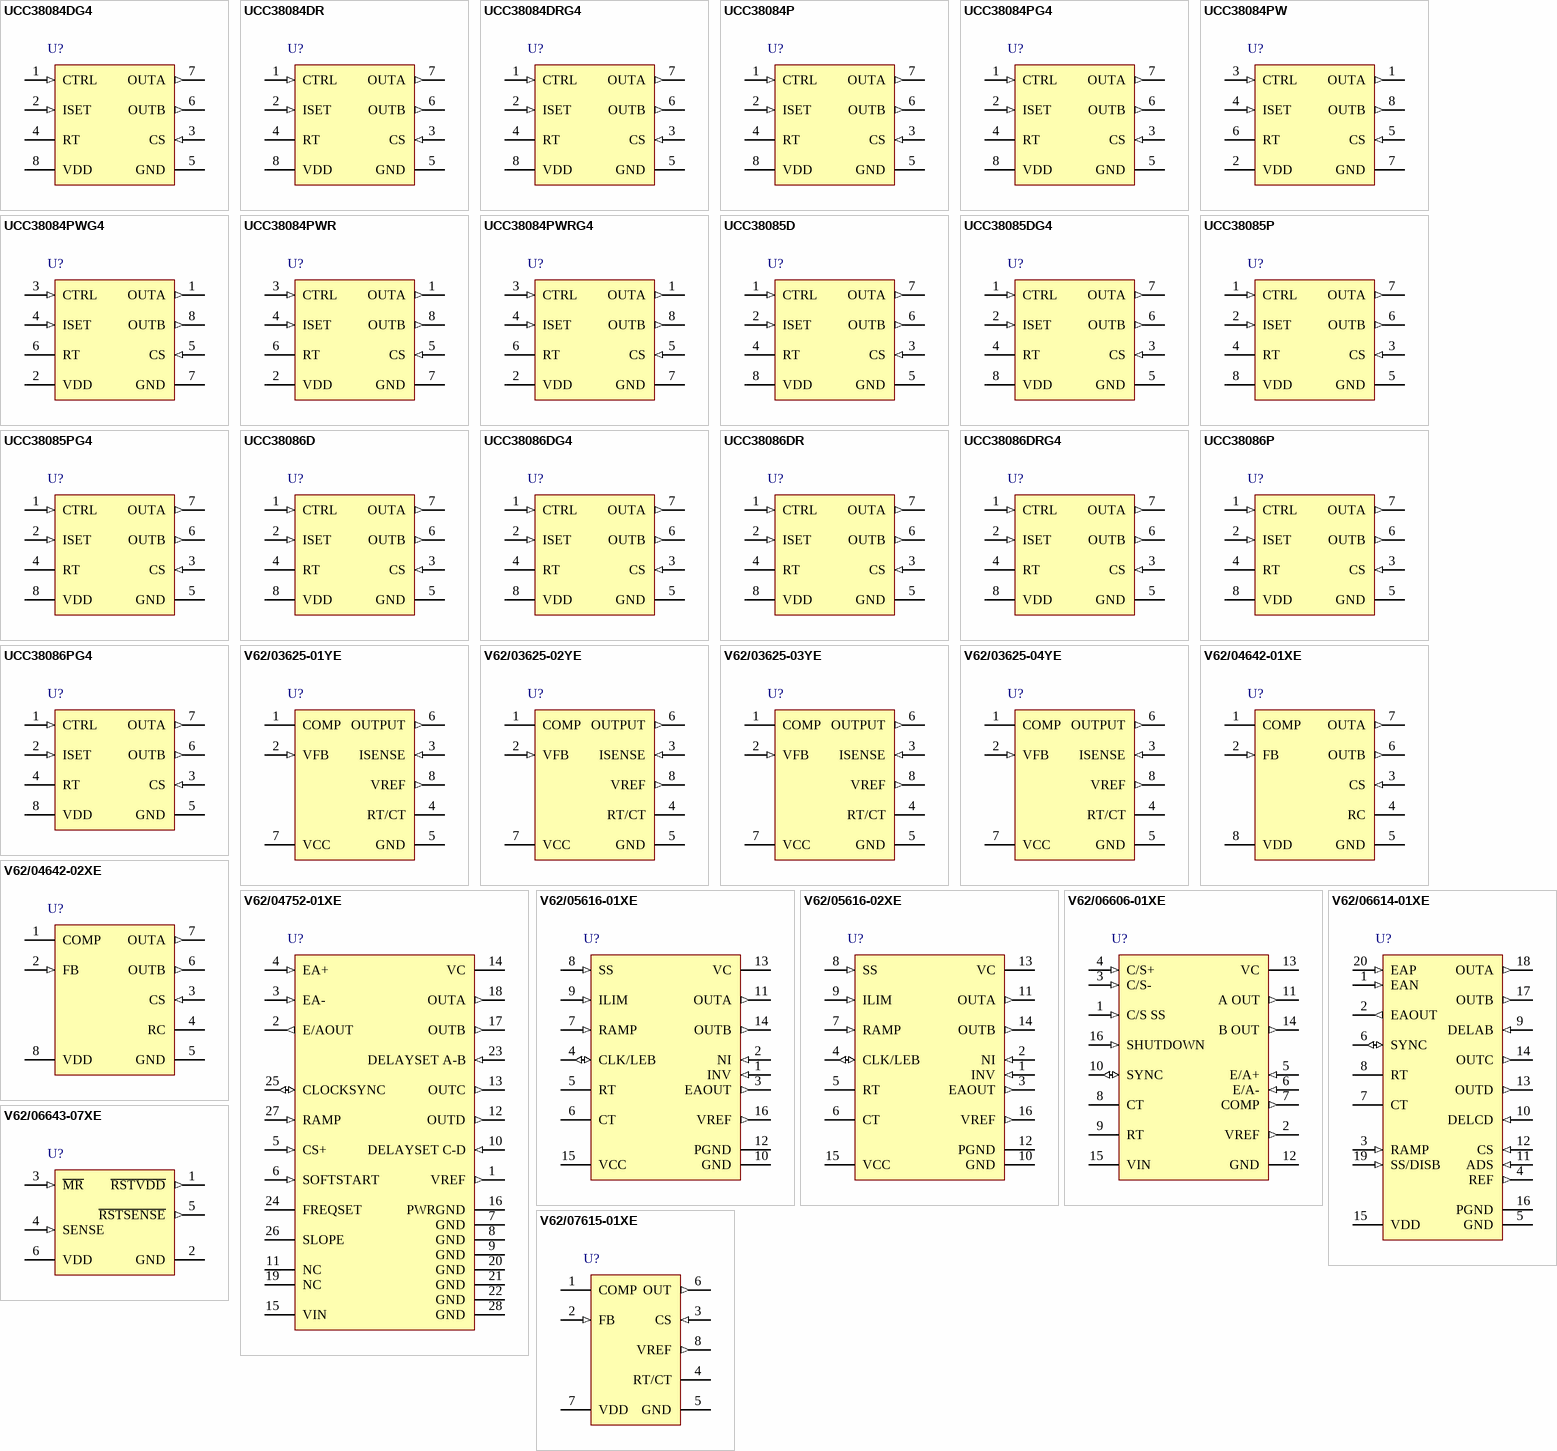
[diagram p43: symbols UCC38084DG4 to V62/07615-01XE]

## UCC38084DG4
designator U?
8-Pin Current Mode Push-Pull PWM Controllers with Programmable Slope Compensation with Current control, 50% Duty Cycle, 0 to +70 degC, 8-pin SOIC (D), Green (RoHS & no Sb/Br); PartNumber: UCC38084DG4; Manufacturer: Texas Instruments; Duty Cycle(Max)(%): 50; Frequency(Max)(kHz): 1000; Rating: Catalog; Regulated Outputs(#): 2; Topology: Boost, Buck, Half-Bridge, Push-Pull; UVLO Thresholds On/Off(V): 4.3/4.1; DatasheetVersion: SLUS488E; PackageVersion: revM, Jun-2011; PackageReference: D8; PackageDescription: 8-Pin Plastic Small Outline Integrated Circuit, 4.9 x 3.9 mm, Pitch 1.27 mm Pitch; Supplier 1: Digi-Key; Supplier Part Number 1: UCC38084DG4-ND; Supplier 2: Newark; Supplier Part Number 2: 02M4374; Supplier 3: Mouser; Supplier Part Number 3: 595-UCC38084DG4; Control Method: Current; Eco-Plan: Green (RoHS & no Sb/Br); SubFamily: PWM Controller; Mounting Technology: Surface Mount; Code_JEDEC: MS-012AA; ComponentLink1Description: Datasheet; ComponentLink1URL: http://www.ti.com/general/docs/lit/getliterature.tsp?genericPartNumber=UCC38084&fileType=pdf
footprint D8_N (SOIC, 8-Leads, Body 4.9x3.9mm, Pitch 1.27mm, IPC Medium Density)
footprint D8_L (SOIC, 8-Leads, Body 4.9x3.9mm, Pitch 1.27mm, IPC High Density)
footprint D8_M (SOIC, 8-Leads, Body 4.9x3.9mm, Pitch 1.27mm, IPC Low Density)
pins: 1 CTRL (in) "Error voltage input to PWM comparator.", 2 ISET (in) "Current selection for slope compensation.", 3 CS (in) "The current-sense input to the PWM comparator, the cycle-by-cycle peak current comparator, and the overcurrent comparator. The overcurrent comparator is only intended for fault sensing. Exceeding the overcurrent threshold (See Datasheet)", 4 RT "Programs the oscillator.", 5 GND (power) "Reference ground and power ground for all functions. Due to high currents, and high-frequency operation of the IC, a low-impedance circuit board ground plane is highly recommended.", 6 OUTB (out) "Alternating high-current output stages.", 7 OUTA (out) "Alternating high-current output stages.", 8 VDD (power) "Power input connection."

## UCC38084DR
designator U?
8-Pin Current Mode Push-Pull PWM Controllers with Programmable Slope Compensation with Current control, 50% Duty Cycle, 0 to +70 degC, 8-pin SOIC (D), Green (RoHS & no Sb/Br); PartNumber: UCC38084DR; Manufacturer: Texas Instruments; Duty Cycle(Max)(%): 50; Frequency(Max)(kHz): 1000; Rating: Catalog; Regulated Outputs(#): 2; Topology: Boost, Buck, Half-Bridge, Push-Pull; UVLO Thresholds On/Off(V): 4.3/4.1; DatasheetVersion: SLUS488E; PackageVersion: revM, Jun-2011; PackageReference: D8; PackageDescription: 8-Pin Plastic Small Outline Integrated Circuit, 4.9 x 3.9 mm, Pitch 1.27 mm Pitch; Supplier 1: Digi-Key; Supplier Part Number 1: UCC38084DR-ND; Supplier 2: Newark; Supplier Part Number 2: 02E7341; Supplier 3: Mouser; Supplier Part Number 3: 595-UCC38084DR; Control Method: Current; Eco-Plan: Green (RoHS & no Sb/Br); SubFamily: PWM Controller; Mounting Technology: Surface Mount; Code_JEDEC: MS-012AA; ComponentLink1Description: Datasheet; ComponentLink1URL: http://www.ti.com/general/docs/lit/getliterature.tsp?genericPartNumber=UCC38084&fileType=pdf
footprint D8_N (SOIC, 8-Leads, Body 4.9x3.9mm, Pitch 1.27mm, IPC Medium Density)
footprint D8_L (SOIC, 8-Leads, Body 4.9x3.9mm, Pitch 1.27mm, IPC High Density)
footprint D8_M (SOIC, 8-Leads, Body 4.9x3.9mm, Pitch 1.27mm, IPC Low Density)
pins: 1 CTRL (in) "Error voltage input to PWM comparator.", 2 ISET (in) "Current selection for slope compensation.", 3 CS (in) "The current-sense input to the PWM comparator, the cycle-by-cycle peak current comparator, and the overcurrent comparator. The overcurrent comparator is only intended for fault sensing. Exceeding the overcurrent threshold (See Datasheet)", 4 RT "Programs the oscillator.", 5 GND (power) "Reference ground and power ground for all functions. Due to high currents, and high-frequency operation of the IC, a low-impedance circuit board ground plane is highly recommended.", 6 OUTB (out) "Alternating high-current output stages.", 7 OUTA (out) "Alternating high-current output stages.", 8 VDD (power) "Power input connection."

## UCC38084DRG4
designator U?
8-Pin Current Mode Push-Pull PWM Controllers with Programmable Slope Compensation with Current control, 50% Duty Cycle, 0 to +70 degC, 8-pin SOIC (D), Green (RoHS & no Sb/Br); PartNumber: UCC38084DRG4; Manufacturer: Texas Instruments; Duty Cycle(Max)(%): 50; Frequency(Max)(kHz): 1000; Rating: Catalog; Regulated Outputs(#): 2; Topology: Boost, Buck, Half-Bridge, Push-Pull; UVLO Thresholds On/Off(V): 4.3/4.1; DatasheetVersion: SLUS488E; PackageVersion: revM, Jun-2011; PackageReference: D8; PackageDescription: 8-Pin Plastic Small Outline Integrated Circuit, 4.9 x 3.9 mm, Pitch 1.27 mm Pitch; Supplier 1: Digi-Key; Supplier Part Number 1: UCC38084DRG4-ND; Supplier 2: Newark; Supplier Part Number 2: 54K2132; Supplier 3: Mouser; Supplier Part Number 3: 595-UCC38084DRG4; Control Method: Current; Eco-Plan: Green (RoHS & no Sb/Br); SubFamily: PWM Controller; Mounting Technology: Surface Mount; Code_JEDEC: MS-012AA; ComponentLink1Description: Datasheet; ComponentLink1URL: http://www.ti.com/general/docs/lit/getliterature.tsp?genericPartNumber=UCC38084&fileType=pdf
footprint D8_N (SOIC, 8-Leads, Body 4.9x3.9mm, Pitch 1.27mm, IPC Medium Density)
footprint D8_L (SOIC, 8-Leads, Body 4.9x3.9mm, Pitch 1.27mm, IPC High Density)
footprint D8_M (SOIC, 8-Leads, Body 4.9x3.9mm, Pitch 1.27mm, IPC Low Density)
pins: 1 CTRL (in) "Error voltage input to PWM comparator.", 2 ISET (in) "Current selection for slope compensation.", 3 CS (in) "The current-sense input to the PWM comparator, the cycle-by-cycle peak current comparator, and the overcurrent comparator. The overcurrent comparator is only intended for fault sensing. Exceeding the overcurrent threshold (See Datasheet)", 4 RT "Programs the oscillator.", 5 GND (power) "Reference ground and power ground for all functions. Due to high currents, and high-frequency operation of the IC, a low-impedance circuit board ground plane is highly recommended.", 6 OUTB (out) "Alternating high-current output stages.", 7 OUTA (out) "Alternating high-current output stages.", 8 VDD (power) "Power input connection."

## UCC38084P
designator U?
8-Pin Current Mode Push-Pull PWM Controllers with Programmable Slope Compensation with Current control, 50% Duty Cycle, 0 to +70 degC, 8-pin PDIP (P), Green (RoHS & no Sb/Br); PartNumber: UCC38084P; Manufacturer: Texas Instruments; Duty Cycle(Max)(%): 50; Frequency(Max)(kHz): 1000; Rating: Catalog; Regulated Outputs(#): 2; Topology: Boost, Buck, Half-Bridge, Push-Pull; UVLO Thresholds On/Off(V): 4.3/4.1; DatasheetVersion: SLUS488E; PackageVersion: revE, Apr-2010; PackageReference: P8; PackageDescription: 8-Pin Plastic Dual-In-Line Package, Row Spacing 7.62 mm, Pitch 2.54 mm; Supplier 1: Digi-Key; Supplier Part Number 1: 296-13693-5-ND; Supplier 2: Newark; Supplier Part Number 2: 02E7342; Supplier 3: Mouser; Supplier Part Number 3: 595-UCC38084P; Control Method: Current; Eco-Plan: Green (RoHS & no Sb/Br); SubFamily: PWM Controller; Mounting Technology: Through Hole; Code_JEDEC: MS-001-BA; ComponentLink1Description: Datasheet; ComponentLink1URL: http://www.ti.com/general/docs/lit/getliterature.tsp?genericPartNumber=UCC38084&fileType=pdf
footprint P8 (DIP, 8-Leads, Row Spacing 7.62mm, Pitch 2.54mm, Body 9.6x6.4mm)
pins: 1 CTRL (in) "Error voltage input to PWM comparator", 2 ISET (in) "Current selection for slope compensation.", 3 CS (in) "The current-sense input to the PWM comparator, the cycle-by-cycle peak current comparator, and the overcurrent comparator. The overcurrent comparator is only intended for fault sensing. Exceeding the overcurrent threshold (See Datasheet)", 4 RT "Programs the oscillator.", 5 GND (power) "Reference ground and power ground for all functions. Due to high currents, and high-frequency operation of the IC, a low-impedance circuit board ground plane is highly recommended.", 6 OUTB (out) "Alternating high-current output stages.", 7 OUTA (out) "Alternating high-current output stages.", 8 VDD (power) "Power input connection."

## UCC38084PG4
designator U?
8-Pin Current Mode Push-Pull PWM Controllers with Programmable Slope Compensation with Current control, 50% Duty Cycle, 0 to +70 degC, 8-pin PDIP (P), Green (RoHS & no Sb/Br); PartNumber: UCC38084PG4; Manufacturer: Texas Instruments; Duty Cycle(Max)(%): 50; Frequency(Max)(kHz): 1000; Rating: Catalog; Regulated Outputs(#): 2; Topology: Boost, Buck, Half-Bridge, Push-Pull; UVLO Thresholds On/Off(V): 4.3/4.1; DatasheetVersion: SLUS488E; PackageVersion: revE, Apr-2010; PackageReference: P8; PackageDescription: 8-Pin Plastic Dual-In-Line Package, Row Spacing 7.62 mm, Pitch 2.54 mm; Supplier 1: Digi-Key; Supplier Part Number 1: UCC38084PG4-ND; Supplier 2: Newark; Supplier Part Number 2: 24K6344; Supplier 3: Mouser; Supplier Part Number 3: 595-UCC38084PG4; Control Method: Current; Eco-Plan: Green (RoHS & no Sb/Br); SubFamily: PWM Controller; Mounting Technology: Through Hole; Code_JEDEC: MS-001-BA; ComponentLink1Description: Datasheet; ComponentLink1URL: http://www.ti.com/general/docs/lit/getliterature.tsp?genericPartNumber=UCC38084&fileType=pdf
footprint P8 (DIP, 8-Leads, Row Spacing 7.62mm, Pitch 2.54mm, Body 9.6x6.4mm)
pins: 1 CTRL (in) "Error voltage input to PWM comparator", 2 ISET (in) "Current selection for slope compensation.", 3 CS (in) "The current-sense input to the PWM comparator, the cycle-by-cycle peak current comparator, and the overcurrent comparator. The overcurrent comparator is only intended for fault sensing. Exceeding the overcurrent threshold (See Datasheet)", 4 RT "Programs the oscillator.", 5 GND (power) "Reference ground and power ground for all functions. Due to high currents, and high-frequency operation of the IC, a low-impedance circuit board ground plane is highly recommended.", 6 OUTB (out) "Alternating high-current output stages.", 7 OUTA (out) "Alternating high-current output stages.", 8 VDD (power) "Power input connection."

## UCC38084PW
designator U?
8-Pin Current Mode Push-Pull PWM Controllers with Programmable Slope Compensation with Current control, 50% Duty Cycle, 0 to +70 degC, 8-pin TSSOP (PW), Green (RoHS & no Sb/Br); PartNumber: UCC38084PW; Manufacturer: Texas Instruments; Duty Cycle(Max)(%): 50; Frequency(Max)(kHz): 1000; Rating: Catalog; Regulated Outputs(#): 2; Topology: Boost, Buck, Half-Bridge, Push-Pull; UVLO Thresholds On/Off(V): 4.3/4.1; DatasheetVersion: SLUS488E; PackageVersion: revG, Feb-2011; PackageReference: PW8; PackageDescription: 8-Pin Plastic Thin Small Outline Package 3 x 4.4 mm Body ,0.65 mm Pitch; Supplier 1: Digi-Key; Supplier Part Number 1: 296-14337-5-ND; Supplier 2: Farnell; Supplier Part Number 2: 1461327; Supplier 3: Newark; Supplier Part Number 3: 22H2013; Supplier 4: Mouser; Supplier Part Number 4: 595-UCC38084PW; Control Method: Current; Eco-Plan: Green (RoHS & no Sb/Br); SubFamily: PWM Controller; Mounting Technology: Surface Mount; Code_JEDEC: MO-153; ComponentLink1Description: Datasheet; ComponentLink1URL: http://www.ti.com/general/docs/lit/getliterature.tsp?genericPartNumber=UCC38084&fileType=pdf
footprint PW8_N (TSOP, 8-Leads, Body 3x4.4mm, Pitch 0.65mm, IPC Medium Density)
footprint PW8_L (TSOP, 8-Leads, Body 3x4.4mm, Pitch 0.65mm, IPC High Density)
footprint PW8_M (TSOP, 8-Leads, Body 3x4.4mm, Pitch 0.65mm, IPC Low Density)
pins: 1 OUTA (out) "Alternating high-current output stages.", 2 VDD (power) "Power input connection.", 3 CTRL (in) "Error voltage input to PWM comparator.", 4 ISET (in) "Current selection for slope compensation.", 5 CS (in) "The current-sense input to the PWM comparator, the cycle-by-cycle peak current comparator, and the overcurrent comparator. The overcurrent comparator is only intended for fault sensing. Exceeding the overcurrent threshold (See Datasheet)", 6 RT "Programs the oscillator.", 7 GND (power) "Reference ground and power ground for all functions. Due to high currents, and high-frequency operation of the IC, a low-impedance circuit board ground plane is highly recommended.", 8 OUTB (out) "Alternating high-current output stages."